# Altium footprint library LCD.PcbLib: 1 footprints
Each footprint in its own frame and in the unit in brackets; x right, y up, seen from the top. Pads: shape width x height; smd on the part's side, far side on the other; paste and mask are expansions set on the pad; w line width, h text height; cw(c..) or ccw(c..) is an arc to the next point about the centre after c.
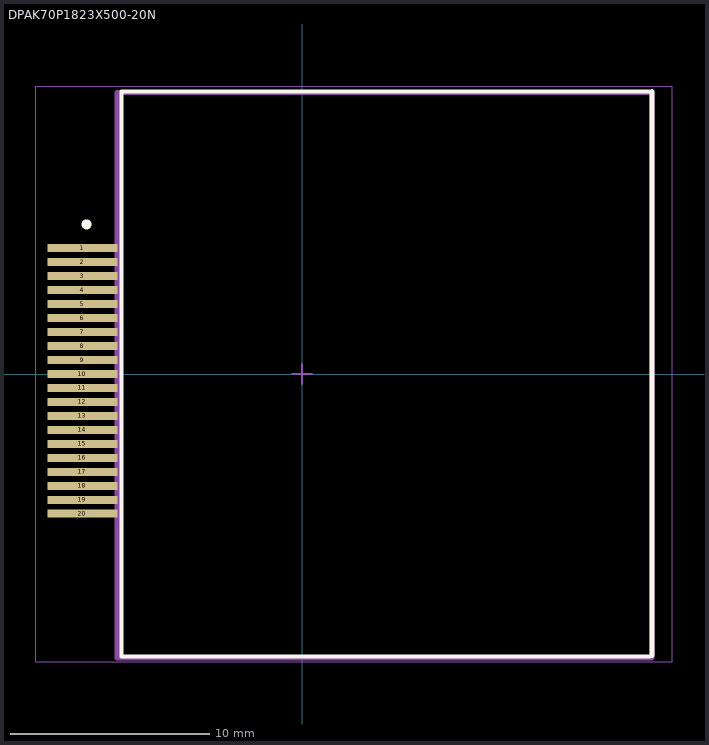
[diagram p0: the footprint, top view; thin cyan lines are the x and y axes]

## DPAK70P1823X500-20N [mm] "D3-PAK, 20-Pads, Body 16.41x17.53mm (max), IPC Medium Density"
height 5
pads (20):
  rect 3.5x0.4 smd: 1(-11,6.3) 2(-11,5.6) 3(-11,4.9) 4(-11,4.2) 5(-11,3.5) 6(-11,2.8) 7(-11,2.1) 8(-11,1.4) 9(-11,0.7) 10(-11,0) 11(-11,-0.7) 12(-11,-1.4) 13(-11,-2.1) 14(-11,-2.8) 15(-11,-3.5) 16(-11,-4.2) 17(-11,-4.9) 18(-11,-5.6) 19(-11,-6.3) 20(-11,-7)
Top Overlay:
  circle w0.25: c-10.795,7.493 r0.125
  lines w0.2: 17.399,-14.15 -9.05,-14.15 -9.05,14.15 17.526,14.15
  lines w0.254: 17.526,-14.097 17.526,14.15
Mechanical 1:
  lines w0.254: -9.271,-14.224 17.526,-14.224 17.526,14.097 -9.271,14.097 -9.271,-14.224
Mechanical 13:
  lines w0.1: -9.1,-14.175 17.51,-14.175 17.51,14.175 -9.1,14.175 -9.1,-14.175
Mechanical 15:
  lines w0.05: -13.335,-14.425 18.542,-14.425 18.542,14.425 -13.335,14.425 -13.335,-14.425
  lines w0.1: -0.5,0 0.5,0 ; 0,-0.5 0,0.5
3D body: height 4, standoff 2, extent -6.604,-12.192 16.129,11.811
3D body: height 3, standoff 0, extent -9.1,-14.175 17.51,14.175